# EAGLE library part BINDER_M12_PAR_8_DIP (library CONN, Panel Mount Connectors)
Binder: 86-0231-0000-00008
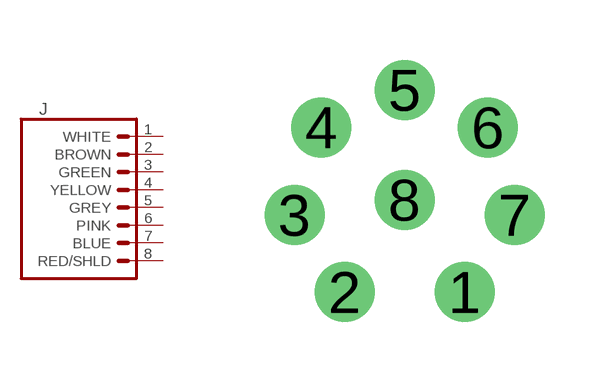
[diagram p0: symbol with the pads of BINDER_M12_PAR_8_DIP; footprint BINDER_M12_PAR_8_DIP]

Designator prefix J

## BINDER_M12_PAR_8_DIP  [BINDER_M12_PAR_8_DIP]
1  WHITE  pas
2  BROWN  pas
3  GREEN  pas
4  YELLOW  pas
5  GREY  pas
6  PINK  pas
7  BLUE  pas
8  RED/SHLD  pas

## Footprint BINDER_M12_PAR_8_DIP (pad centres in mm)
drill 0.85 pad 1.5: 1 1.5,-2.31; 2 -1.5,-2.31; 3 -2.75,-0.38; 4 -2.08,1.81; 5 0,2.75; 6 2.08,1.81; 7 2.75,-0.38; 8 0,0